# Altium footprint library MLACHC_C.PCBLIB: 52 footprints (part 3 of 4)
Each footprint in its own frame and in the unit in brackets; x right, y up, seen from the top. Pads: shape width x height; smd on the part's side, far side on the other; paste and mask are expansions set on the pad; w line width, h text height; cw(c..) or ccw(c..) is an arc to the next point about the centre after c.
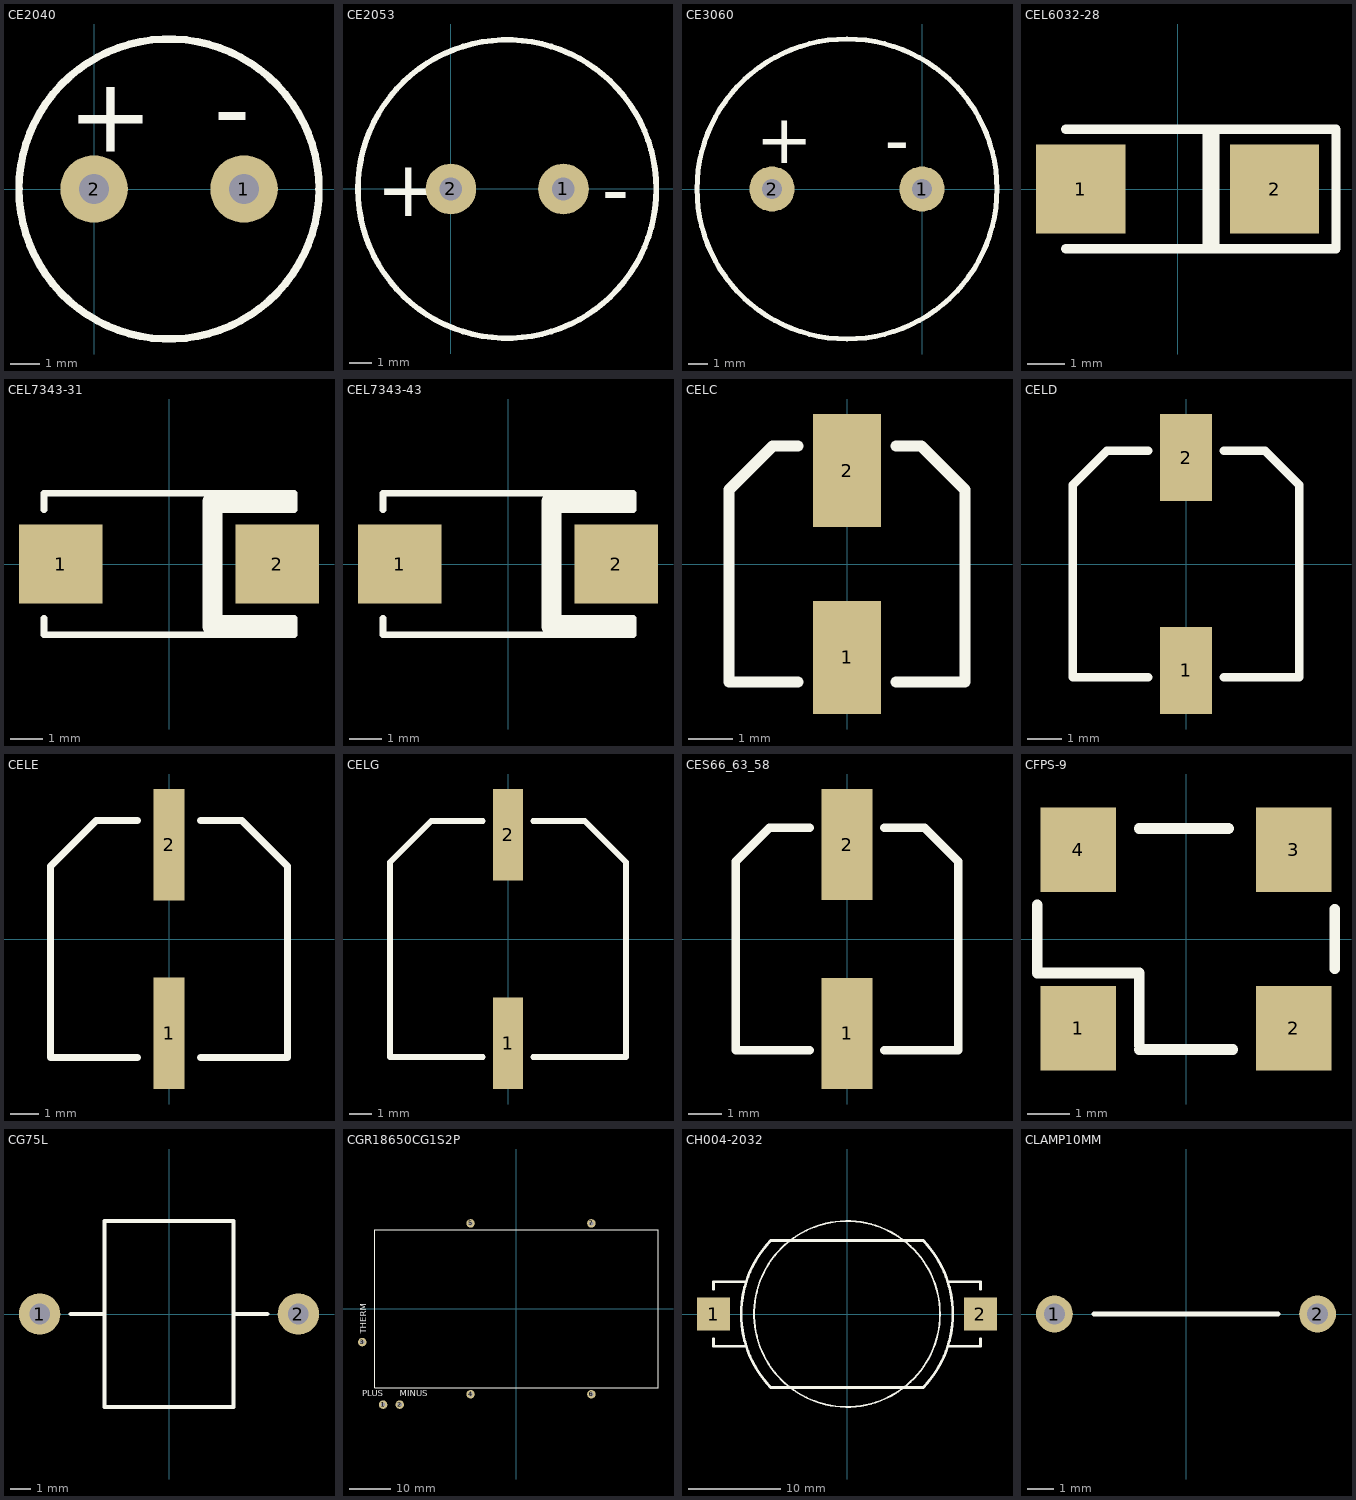
[diagram p2: the footprints below, top view; thin cyan lines are the x and y axes]

## CE2040 [mil]
pads (2):
  round 90 hole 40: 1(200,0) 2(0,0)
TopOverlay:
  circle w10: c100,0 r200
  text "+" at -35,50 h100
  text "-" at 160,60 h100
3D body: height 787.4, standoff 0, extent -96.46,-196.85 295.69,196.07

## CE2053 [mil]
pads (2):
  round 90 hole 40: 1(200,0) 2(0,0)
TopOverlay:
  circle w10: c100,0 r265
  text "+" at -133,-48 h100
  text "-" at 268,-48 h100

## CE3060 [mil]
pads (2):
  round 90 hole 40: 1(0,0) 2(-300,0)
TopOverlay:
  circle w10: c-150,0 r300
  text "+" at -333,52 h100
  text "-" at -75,50 h100

## CEL6032-28 [mm]
pads (2):
  rect 2.4x2.4 smd: 1(-2.6,0) 2(2.6,0)
TopOverlay:
  lines w0.254: -3,-1.6 3,-1.6 4.25,-1.6 4.25,1.6 3,1.6 -3,1.6 ; 0.8,-1.6 0.8,1.6 ; 1,-1.6 1,1.6
3D body: height 1.3, standoff 0, extent 2.8,-1.1 3,1.1
3D body: height 1.3, standoff 0, extent -3,-1.1 -2.8,1.1
3D body: height 2.65, standoff 2.6, extent 2,-1.6 2.8,1.6
3D body: height 2.6, standoff 0, extent -2.8,-1.6 2.8,1.6

## CEL7343-31 [mil]
pads (2):
  rect 100x95 smd: 1(-130,0) 2(130,0)
TopOverlay:
  lines w8: -150,-65 -150,-85 150,-85 150,-65 60,-65 60,65 150,65 150,85 -150,85 -150,65
  lines w20: 140,-75 50,-75 50,75 140,75
3D body: height 114.17, standoff 0, extent -122.05,-82.68 122.05,82.68
3D body: height 78.74, standoff 0, extent -129.92,-47.24 -106.3,47.24
3D body: height 78.74, standoff 0, extent 106.3,-47.24 129.92,47.24

## CEL7343-43 [mil]
pads (2):
  rect 100x95 smd: 1(-130,0) 2(130,0)
TopOverlay:
  lines w8: -150,-65 -150,-85 150,-85 150,-65 60,-65 60,65 150,65 150,85 -150,85 -150,65
  lines w20: 140,-75 50,-75 50,75 140,75
3D body: height 78.74, standoff 0, extent 106.3,-47.24 129.92,47.24
3D body: height 78.74, standoff 0, extent -129.92,-47.24 -106.3,47.24
3D body: height 161.42, standoff 0, extent -122.05,-82.68 122.05,82.68

## CELC [mil]
height 236.22
pads (2):
  rect 60x100 smd: 1(0,-82.68) 2(0,82.68)
TopOverlay:
  lines w10: -43.31,-104.33 -104.33,-104.33 -104.33,65.67 -65.67,104.33 -43.31,104.33 ; 43.31,-104.33 104.33,-104.33 104.33,65.67 65.67,104.33 43.31,104.33

## CELD [mil]
height 236.22
pads (2):
  rect 60x100 smd: 1(0,-122) 2(0,122)
TopOverlay:
  lines w10: -43.31,-129.92 -129.92,-129.92 -129.92,90.55 -90.55,129.92 -43.31,129.92 ; 43.31,-129.92 129.92,-129.92 129.92,90.55 90.55,129.92 43.31,129.92

## CELE [mm]
height 6
pads (2):
  rect 1.1x3.9 smd: 1(0,-3.3) 2(0,3.3)
TopOverlay:
  lines w0.254: -1.1,-4.15 -4.15,-4.15 -4.15,2.55 -2.55,4.15 -1.1,4.15 ; 1.1,-4.15 4.15,-4.15 4.15,2.55 2.55,4.15 1.1,4.15

## CELG [mm]
height 6
pads (2):
  rect 1.3x4 smd: 1(0,-4.55) 2(0,4.55)
TopOverlay:
  lines w0.254: -1.1,-5.15 -5.15,-5.15 -5.15,3.35 -3.35,5.15 -1.1,5.15 ; 1.1,-5.15 5.15,-5.15 5.15,3.35 3.35,5.15 1.1,5.15

## CES66_63_58 [mm]
pads (2):
  rect 1.524x3.3 smd: 1(0,-2.8) 2(0,2.8)
TopOverlay:
  lines w0.254: -1.1,-3.3 -3.3,-3.3 -3.3,2.3 -2.3,3.3 -1.1,3.3 ; 1.1,-3.3 3.3,-3.3 3.3,2.3 2.3,3.3 1.1,3.3
3D body: height 5.9, standoff 5.8, extent -2.55,1.9 2.5,3.2
3D body: height 5.8, standoff 0, extent -3.088,-3.15 3.188,3.138
3D body: height 0.1, standoff 0, extent -0.4,-3.8 0.4,-1.1
3D body: height 0.1, standoff 0, extent -0.4,1.1 0.4,3.8
3D body: height 0.3, standoff 0, extent -3.3,-3.3 3.3,3.3

## CFPS-9 [mil]
pads (4):
  rect 70x78 smd: 1(-100,-82.68) 2(100,-82.68) 3(100,82.68) 4(-100,82.68)
TopOverlay:
  lines w10: -137.8,31.5 -137.8,-31.5 -43.31,-31.5 -43.31,-98.43 ; -43.31,-102.36 43.31,-102.36 ; -43.31,102.36 39.37,102.36 ; 137.8,-27.56 137.8,27.56

## CG75L [mil]
pads (2):
  round 80 hole 40: 1(-250,0) 2(250,0)
TopOverlay:
  lines w8: -190,0 -125,0 ; 125,0 190,0 ; -125,-180 125,-180 125,180 -125,180 -125,-180

## CGR18650CG1S2P [mil]
pads (7):
  round 80 hole 40: 1(-1259.84,-905.51) 2(-1102.36,-905.51) 3(-1456.69,-314.96) 4(-433.07,-807.09) 5(-433.07,807.09) 6(708.66,-807.09) 7(708.66,807.09)
TopOverlay:
  lines w10: -1338.58,-748.03 -1338.58,748.03 1338.58,748.03 1338.58,-748.03 -1338.58,-748.03
  text "PLUS" at -1456.69,-826.77 h60
  text "MINUS" at -1102.36,-826.77 h60
  text "THERM" at -1417.32,-236.22 h60

## CH004-2032 [mm]
pads (2):
  rect 3.6x3.6 smd: 1(-14.5,0) 2(14.5,0)
TopOverlay:
  circle w0.2: c0,0 r10.1
  lines w0.3: -14.5,-2.7 -14.5,-3.5 -11,-3.5 ; -14.5,2.7 -14.5,3.5 -11,3.5 ; -8.28,-8 8.28,-8 ; -8.28,-7.981 cw(c0,0) -8.28,7.981 ; -8.28,8 8.28,8 ; 8.28,-7.981 ccw(c0,0) 8.28,7.981 ; 11,-3.5 14.5,-3.5 14.5,-2.7 ; 11,3.5 14.5,3.5 14.5,2.7
3D body: height 4, standoff 0, extent 14.5,-1.6 15,1.7
3D body: height 4, standoff 0, extent -15,-1.6 -14.5,1.7
3D body: height 6, standoff 4.5, extent -10,-10 9.921,9.961
3D body: height 5.4, standoff 0, extent -14.5,-8 14.5,8
3D body: height 4.5, standoff 1.5, extent -9,-9 8.929,8.964

## CLAMP10MM [mm]
pads (2):
  round 1.4 hole 0.8: 1(-5,0) 2(5,0)
TopOverlay:
  lines w0.2: -3.5,0 3.5,0